# Altium schematic symbol library RS_Heatsink.SchLib: 1 symbol
Pins are listed as number, name and electrical type; pins without a type are passive.

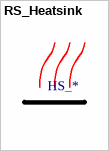
[diagram p0: symbol RS_Heatsink]

## RS_Heatsink
designator HS_*
footprint RS_heatsink_HS135A